# Altium schematic symbol library Other-MAX6675ISA+T.SchLib: 1 symbol
Pins are listed as number, name and electrical type; pins without a type are passive.

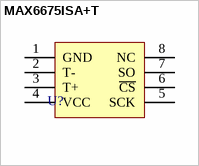
[diagram p0: symbol MAX6675ISA+T]

## MAX6675ISA+T
designator U?  (no BOM)
pins: 1 GND, 2 T-, 3 T+, 4 VCC, 5 SCK, 6 ~{CS}, 7 SO, 8 NC